# EAGLE library part MAX7313 (library 1AA_Stofer)
8 Port I2C expander with LED intensity control
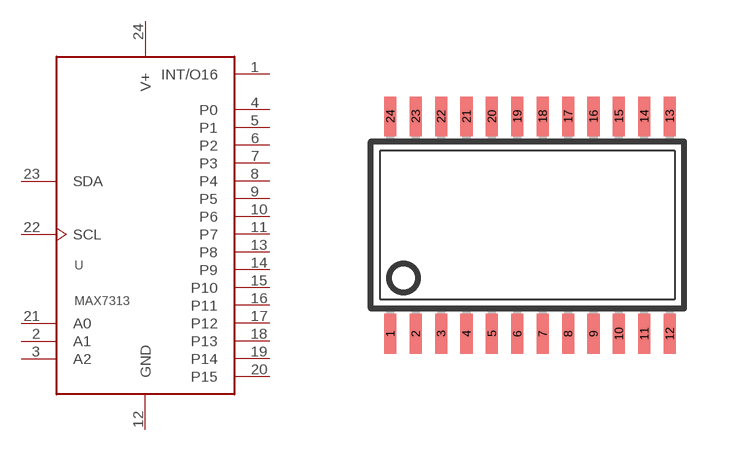
[diagram p6: symbol with the pads of TSSOP024; footprint TSSOP024]

Designator prefix -

## MAX7313  [TSSOP024]
1  INT/O16  oc
2  A1  in
3  A2  in
4  P0  oc
5  P1  oc
6  P2  oc
7  P3  oc
8  P4  oc
9  P5  oc
10  P6  oc
11  P7  oc
12  GND  pwr
13  P8
14  P9
15  P10
16  P11
17  P12
18  P13
19  P14
20  P15
21  A0  in
22  SCL  in
23  SDA
24  V+  pwr

## Footprint TSSOP024 (pad centres in mm)
Thin Shrink Small Outline Package
smd 0.305 x 0.991: 1 -3.493,-2.718; 2 -2.857,-2.718; 3 -2.223,-2.718; 4 -1.587,-2.718; 5 -0.953,-2.718; 6 -0.318,-2.718; 7 0.318,-2.718; 8 0.953,-2.718; 9 1.587,-2.718; 10 2.223,-2.718; 11 2.857,-2.718; 12 3.493,-2.718; 13 3.493,2.718; 14 2.857,2.718; 15 2.223,2.718; 16 1.587,2.718; 17 0.953,2.718; 18 0.318,2.718; 19 -0.318,2.718; 20 -0.953,2.718; 21 -1.587,2.718; 22 -2.223,2.718; 23 -2.857,2.718; 24 -3.493,2.718